# Altium schematic symbol library RCDQLY.SCHLIB: 54 symbols
Pins are listed as number, name and electrical type; pins without a type are passive.

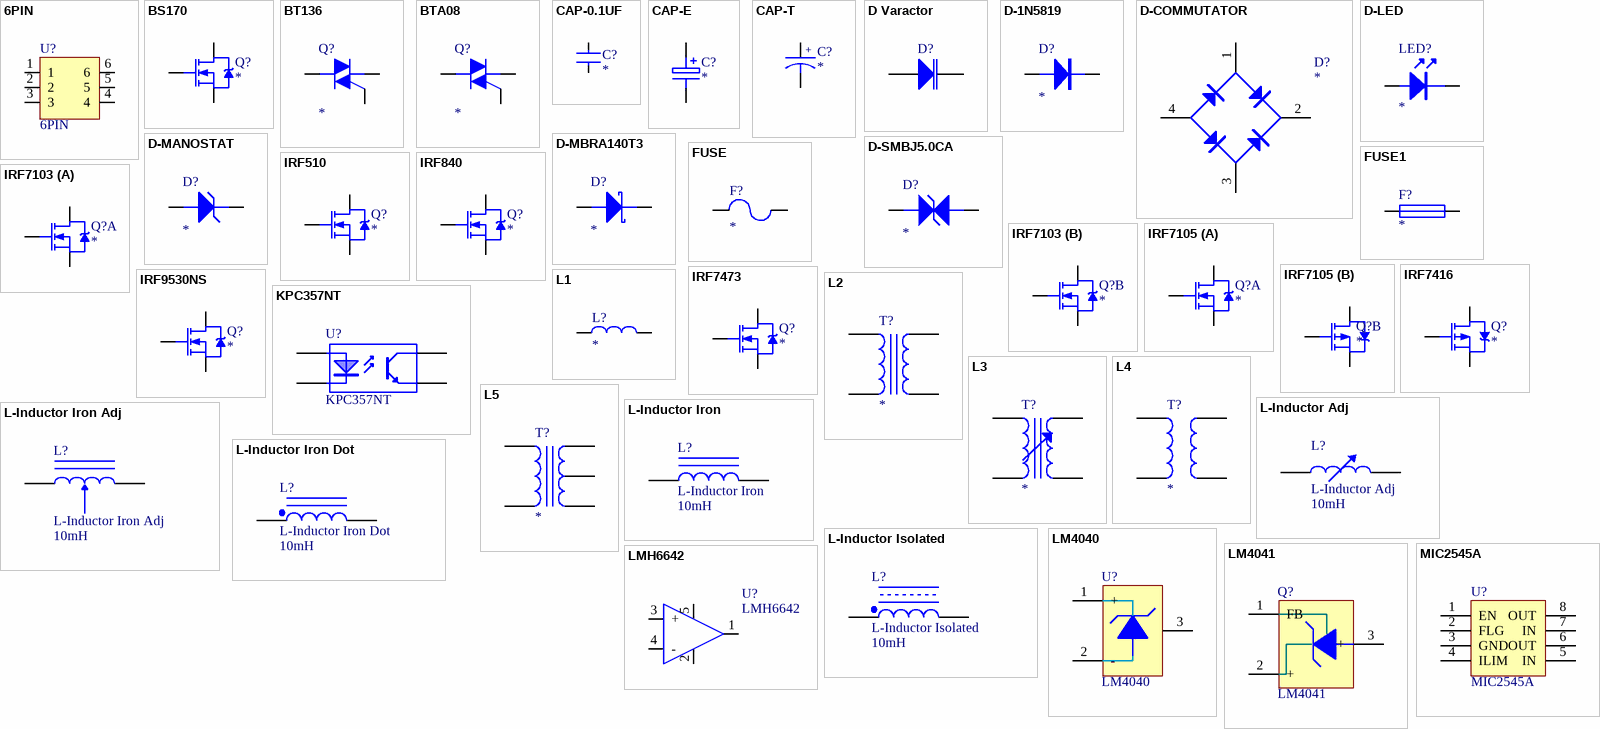
[diagram p0: symbols 6PIN to MIC2545A]

## 6PIN
designator U?
pins: 1, 2, 3, 4, 5, 6

## BS170
designator Q?
CQ-BS170
footprint TO-92
pins: 1 D, 2 G, 3 S

## BT136
designator Q?
CQ-BT136
footprint TO-220
pins: 1 T1, 2 T2, 3 G

## BTA08
designator Q?
CQ-BTA08
footprint TO-220
pins: 1 A1, 2 A2, 3 G

## CAP-0.1UF
designator C?
SMD-CAP
footprint 0603C
footprint 0805C
footprint 1206C
pins: 1, 2

## CAP-E
designator C?
电解电容
footprint RB.2/.4
footprint RB.2/.5
footprint RB.1/.3
footprint RB.3/.6
pins: 1, 2

## CAP-T
designator C?
钽电容
footprint 6032C
footprint 7343C
footprint 3528C
footprint 3216C
pins: 1, 2
text: +

## D Varactor
designator D?
Variable Capacitance Diode; Note: Pin 2 is not connected and not drawn.; Published: 8-Jun-2000; LatestRevisionDate: 17-Jul-2002; LatestRevisionNote: Re-released for DXP Platform.; DatasheetDocument: Jan-1998; PackageReference: SOT23A; Publisher: Altium Limited; Code_JEDEC: SOT23; ComponentLink1Description: Manufacturer Link; ComponentLink1URL: http://www.zetex.com/
footprint SOT23A (SOT-23; 3 Leads; Body 3.0 x 2.5 mm, inc. leads (LxW max))
simulation model BBY31 (Diode)
signal-integrity model D Varactor
pins: 1 K, 3 A

## D-1N5819
designator D?
Diode
footprint DO-41
footprint DO-35
pins: A 1, K 2

## D-COMMUTATOR
designator D?
commutator整流桥
pins: 1 AC, 2 V+, 3 AC, 4 V-

## D-LED
designator LED?
LED
footprint 0805D
footprint LED-3
footprint LED-5
pins: A 1, K 2

## D-MANOSTAT
designator D?
manostat diode
footprint DO-41
footprint DO-35
pins: A 1, K 2

## D-MBRA140T3
designator D?
MBRA140T3
footprint SMA
pins: A 1, K 2

## D-SMBJ5.0CA
designator D?
TVS
footprint SMB
footprint SMB-B
pins: A 1, K 2

## FUSE
designator F?
CR-1812-050A60V
footprint 1812R
pins: 1, 2

## FUSE1
designator F?
FUSE
pins: 1, 2

## IRF510
designator Q?
CQ-IRF510
footprint TO-220
pins: 1 G, 2 D, 3 S

## IRF840
designator Q?
CQ-IRF840
footprint TO-220
pins: 1 G, 2 D, 3 S

## IRF7103
designator Q?
CQ-IRF7103     SO-8N
footprint IRF7105
part A pins: D1, G1, S1
part B pins: D2, G2, S2

## IRF7105
designator Q?
CQ-IRF7105     SO-8N
footprint IRF7105
part A pins: D1, G1, S1
part B pins: D2, G2, S2

## IRF7416
designator Q?
CQ-IRF7416
footprint IRF7416
pins: D, G, S

## IRF7473
designator Q?
CQ-IRF7473
footprint IRF7473
pins: D, G, S

## IRF9530NS
designator Q?
CQ-IRF9530NS
footprint D2PAK
pins: 1 G, 2 D, 3 S

## KPC357NT
designator U?
Published: 24-Mar-1999; LatestRevisionDate: 17-Jul-2002; LatestRevisionNote: Re-released for DXP Platform.; Publisher: Altium Limited
footprint DIP-4 (DIP; 4 Leads; Row Spacing 7.62 mm; Pitch 2.54 mm)
pins: 1 A, 2 K, 3 E, 4 C

## L1
designator L?
电感
footprint SLF10145
footprint SLF12565
pins: 1, 2

## L2
designator T?
变压器
pins: 1, 2, 3, 4

## L3
designator T?
变压器
pins: 1, 2, 3, 4

## L4
designator T?
变压器
pins: 1, 2, 3, 4

## L5
designator T?
变压器
pins: 1, 2, 3, 4, 5

## L-Inductor Adj
designator L?  value 10mH
Adjustable Inductor; Set Position: 0.5; Published: 24-Mar-1999; LatestRevisionDate: 17-Jul-2002; LatestRevisionNote: Re-released for DXP Platform.; PackageReference: AXIAL-0.8; Publisher: Altium Limited
footprint AXIAL-0.8 (Adjustable Inductor; 2 Leads)
simulation model INDUCTOR (Inductor)
signal-integrity model Inductor Adj
pins: 1, 2

## L-Inductor Iron
designator L?  value 10mH
Magnetic-Core Inductor; Published: 24-Mar-1999; LatestRevisionDate: 17-Jul-2002; LatestRevisionNote: Re-released for DXP Platform.; PackageReference: AXIAL-0.9; Publisher: Altium Limited
footprint AXIAL-0.9 (Magnetic-Core Inductor; 2 Leads)
simulation model INDUCTOR (Inductor)
signal-integrity model Inductor Iron
pins: 1, 2

## L-Inductor Iron Adj
designator L?  value 10mH
Adjustable Magnetic-Core Inductor; Set Position: 0.5; Published: 24-Mar-1999; LatestRevisionDate: 17-Jul-2002; LatestRevisionNote: Re-released for DXP Platform.; PackageReference: AXIAL-1.0; Publisher: Altium Limited
footprint AXIAL-1.0 (Adjustable Magnetic-Core Inductor; 2 Leads)
simulation model INDUCTOR (Inductor)
signal-integrity model Inductor Iron Adj
pins: 1, 2

## L-Inductor Iron Dot
designator L?  value 10mH
Magnetic-Core Inductor with Winding Polarity Marking; Published: 24-Mar-1999; LatestRevisionDate: 17-Jul-2002; LatestRevisionNote: Re-released for DXP Platform.; PackageReference: DIODE_SMC; Publisher: Altium Limited
footprint DIODE_SMC (Magnetic-Core Inductor with Winding Polarity Marking; 2 Leads)
signal-integrity model Inductor Iron Dot
pins: 1, 2

## L-Inductor Isolated
designator L?  value 10mH
Isolated Inductor; PackageDocument: 1988; Published: 24-Mar-1999; LatestRevisionDate: 17-Jul-2002; LatestRevisionNote: Re-released for DXP Platform.; PackageReference: 425; Publisher: Altium Limited
footprint 425 (SOD-123; 2 Leads; Body 2.7 x 1.6 mm, (LxW))
signal-integrity model Inductor Isolated
pins: 1, 2

## LM4040
designator U?
Shunt  Voltage  Reference
pins: 1 +, 2 -, 3

## LM4041
designator Q?
Shunt  Voltage  Reference
footprint SOT-23 (Footprint not found)
pins: 1 FB, 2 +, 3 +

## LMH6642
designator U?
Amplifier IC
pins: 1 OUT, 2 V-, 3 +, 4 -, 5 V+

## MIC2545A
designator U?
IC; Set Position: 0.5; Published: 8-Jun-2000; LatestRevisionDate: 17-Jul-2002; LatestRevisionNote: Re-released for DXP Platform.; PackageReference: AXIAL-0.6; Publisher: Altium Limited
footprint AXIAL-0.6 (Variable Resistor; 2 Leads)
simulation model VRES (Variable Resistor)
signal-integrity model Res Adj
pins: 1 EN, 2 FLG, 3 GND, 4 ILIM, 5 IN, 6 OUT, 7 IN, 8 OUT

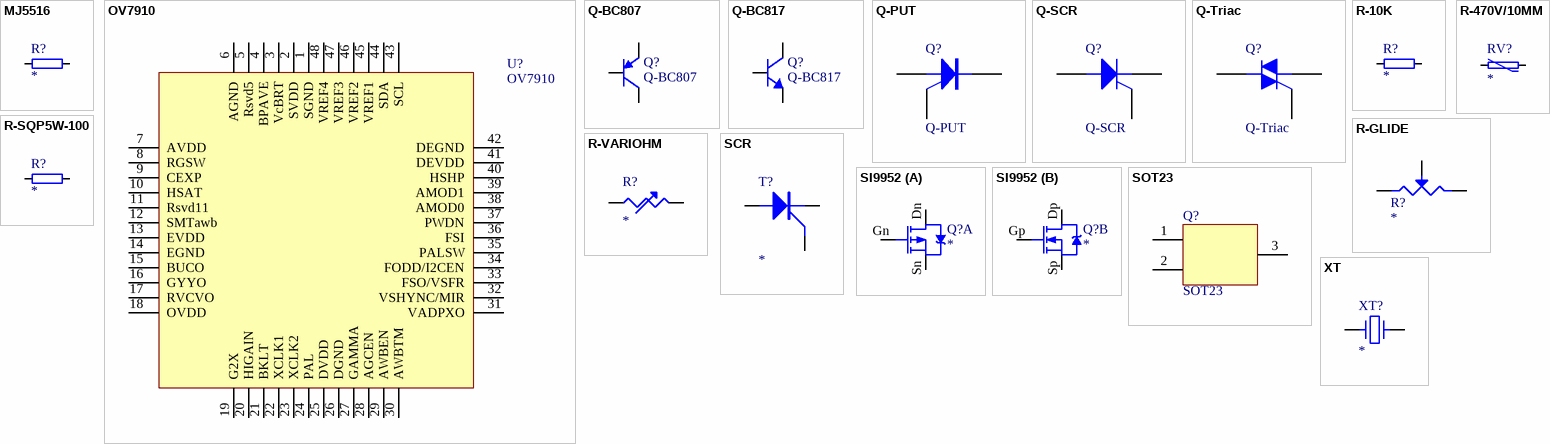
[diagram p1: symbols MJ5516 to XT]

## MJ5516
designator R?
CR-MJ5516
footprint MJ5515
pins: 1, 2

## OV7910
designator U?
Video  IC
pins: 1 SGND, 2 SVDD, 3 VcBRT, 4 BPAVE, 5 Rsvd5, 6 AGND, 7 AVDD, 8 RGSW, 9 CEXP, 10 HSAT, 11 Rsvd11, 12 SMTawb, 13 EVDD, 14 EGND, 15 BUCO, 16 GYYO, 17 RVCVO, 18 OVDD, 19 G2X, 20 HIGAIN, 21 BKLT, 22 XCLK1, 23 XCLK2, 24 PAL, 25 DVDD, 26 DGND, 27 GAMMA, 28 AGCEN, 29 AWBEN, 30 AWBTM, 31 VADPXO, 32 VSHYNC/MIR, 33 FSO/VSFR, 34 FODD/I2CEN, 35 PALSW, 36 FSI, 37 PWDN, 38 AMOD0, 39 AMOD1, 40 HSHP, 41 DEVDD, 42 DEGND, 43 SCL, 44 SDA, 45 VREF1, 46 VREF2, 47 VREF3, 48 VREF4

## Q-BC807
designator Q?
PNP General Purpose Amplifier; Published: 8-Jun-2000; LatestRevisionDate: 15-Jan-2003; LatestRevisionNote: PCB Footprint 'BCY-W3/D4.7' replaced; DatasheetDocument: 1997; PackageDocument: Sep-1998; PackageReference: TO-92A; Publisher: Altium Limited; Code_JEDEC: TO-92A; ComponentLink1Description: Manufacturer Link; ComponentLink1URL: http://www.fairchildsemi.com/; ComponentLink2Description: Datasheet; ComponentLink2URL: http://www.fairchildsemi.com/ds/2N%2F2N3906.pdf
footprint SOT-23Q
simulation model 2N3906 (PNP)
signal-integrity model 2N3906
pins: B, C, E

## Q-BC817
designator Q?
NPN General Purpose Amplifier; Published: 8-Jun-2000; LatestRevisionDate: 15-Jan-2003; LatestRevisionNote: PCB Footprint 'BCY-W3/D4.7' replaced; DatasheetDocument: 1997; PackageDocument: Sep-1998; PackageReference: TO-92A; Publisher: Altium Limited; Code_JEDEC: TO-92A; ComponentLink1Description: Manufacturer Link; ComponentLink1URL: http://www.fairchildsemi.com/; ComponentLink2Description: Datasheet; ComponentLink2URL: http://www.fairchildsemi.com/ds/2N%2F2N3904.pdf
footprint TO-92A (TO, Flat Index; 3 In-Line, Axial Leads; Body Dia. 4.5mm; Leads 0.51 x 0.48 mm (max))
simulation model 2N3904 (NPN)
signal-integrity model 2N3904
pins: 1 E, 2 B, 3 C

## Q-PUT
designator Q?
Programmable Unijunction Transistor; Published: 8-Jun-2000; LatestRevisionDate: 17-Jul-2002; LatestRevisionNote: Re-released for DXP Platform.; PackageReference: TO-52; Publisher: Altium Limited
footprint TO-52 (Can; 3 Leads; Pin Circle Dia. 2.54 mm)
simulation model PUT (Spice Subcircuit)
pins: 1 A, 2 G, 3 K

## Q-SCR
designator Q?
Silicon Controlled Rectifier; Published: 8-Jun-2000; LatestRevisionDate: 17-Jul-2002; LatestRevisionNote: Re-released for DXP Platform.; PackageReference: TO-220-AB; Publisher: Altium Limited; Code_JEDEC: TO-220-AB
footprint TO-220-AB (TO, Thru-Hole, Vertical, Heatsink Mounted; 3 In-Line Leads; Pitch 2.54 mm)
simulation model SCR (Spice Subcircuit)
pins: 1 A, 2 G, 3 K

## Q-Triac
designator Q?
Silicon Bidirectional Triode Thyristor; Note: Pin 2 is electrically connected to Pin 4 (TAB); Published: 29-Sep-2000; LatestRevisionDate: 17-Jul-2002; LatestRevisionNote: Re-released for DXP Platform.; DatasheetDocument: 1999; PackageReference: 369-03; Publisher: Altium Limited; Code_JEDEC: TO-251-AA; ComponentLink1Description: Manufacturer Link; ComponentLink1URL: http://www.motorola.com/
footprint 369-03 (TO, Thru-Hole, Vertical, Heatsink Mounted; 3 In-Line Leads; Pitch 2.28 mm)
simulation model MAC15A8 (Spice Subcircuit)
pins: 1 M1, 2 M2, 3 G

## R-10K
designator R?
resistor
footprint 0805R
footprint 0603R
footprint 1206R
pins: 1, 2

## R-470V/10MM
designator RV?
C-471KD10
footprint 470V/10MM
pins: 1, 2

## R-GLIDE
designator R?
pins: 1, 2, 3 W

## R-SQP5W-100
designator R?
CR-SQP5W-101J
footprint R-SQP5W
pins: 1, 2

## R-VARIOHM
designator R?
pins: 1, 2

## SCR
designator T?
SCR
pins: 1 A, 2 K, 3 G

## SI9952
designator Q?
CQ-SI9952
footprint SI9952
part A pins: Dn, Gn, Sn
part B pins: Dp, Gp, Sp

## SOT23
designator Q?
pins: 1, 2, 3

## XT
designator XT?
晶振
footprint HC-49S
pins: 1, 2